# Altium schematic symbol library Passives.SchLib: 6 symbols
Pins are listed as number, name and electrical type; pins without a type are passive.

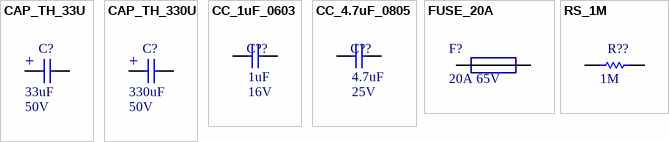
[diagram p0: symbols CAP_TH_33U to RS_1M]

## CAP_TH_33U
designator C?, comment value 33uF  Mav Voltage: 50V  (hidden comment: 33uF 50V)
Cap TH 33uF 50V
footprint CAP_11x5
pins: 1, 2
text: +

## CAP_TH_330U
designator C?, comment value 330uF  Mav Voltage: 50V  (hidden comment: 330uF 50V)
Cap TH 330uF 50V
footprint CAP_16x10
pins: 1, 2
text: +

## CC_1uF_0603
designator C??, comment Max Voltage: 16V  (hidden comment: 1uF)
CAP CER 1uF Y5V -20% +80% 16V 0603; PackageReference: 0603; Code_IPC: 1608 [0603]; Verify: *; Supplier: ECE Dept; Storage Location: PCB Assembly WS; Value: 1uF
simulation model CAP (Capacitor)
signal-integrity model C0603
footprint CAPC1608L (Chip Capacitor, Body 1.6x0.8mm, IPC High Density)
footprint CAPC1608M (Chip Capacitor, Body 1.6x0.8mm, IPC Low Density)
footprint CAPC1608N (Chip Capacitor, Body 1.6x0.8mm, IPC Medium Density)
pins: 1, 2

## CC_4.7uF_0805
designator C??, comment Max Voltage: 25V  (hidden comment: 4.7uF)
CAP CER 4.7uF Y5V -20% +80% 25V 0805; Note: Footprint corresponds to dimensions for bulk cassette packaging. This case size has tightened tolerances.; PackageReference: 0805; Code_IPC: 2012[0805]; Verify: *; Supplier: ECE Dept; Storage Location: PCB Assembly WS; Value: 4.7uF
simulation model CAP (Capacitor)
signal-integrity model C0805
footprint CAPC2012L (Chip Capacitor, Body 2.0x1.3mm, IPC High Density)
footprint CAPC2012M (Chip Capacitor, Body 2.0x1.3mm, IPC Low Density)
footprint CAPC2012N (Chip Capacitor, Body 2.0x1.3mm, IPC Medium Density)
pins: 1, 2

## FUSE_20A
designator F?, comment 20A 65V
FUSE FAST BLOW 20A 65V 2410; Manufacturer 1: Bel Fuse Inc.; Manufacturer Part Number 1: 0679L9200-05; Supplier 1: Digi-Key; Supplier 2: Digi-Key; Supplier Part Number 1: 507-2001-1-ND; Supplier Part Number 2: F8251CT-ND; Manufacturer Part Number 2: 0451020.MRL; Manufacturer 2: Littelfuse Inc.
footprint 2410_FUSE
pins: 0, 1

## RS_1M
designator R??, comment 1M
RES 1.0M OHM 1/10W 5% 0603 SMD; Supplier: ECE Dept; Storage Location: PCB Assembly WS; Value: 1M
footprint RESC1608L (Chip Resistor, Body 1.6x0.8mm, IPC High Density)
footprint RESC1608N (Chip Resistor, Body 1.6x0.8mm, IPC Medium Density)
signal-integrity model Res (Model Description)
simulation model RES (resistor)
pins: 1, 2